# Altium schematic symbol library PA_control_board.SchLib: 74 symbols
Pins are listed as number, name and electrical type; pins without a type are passive.

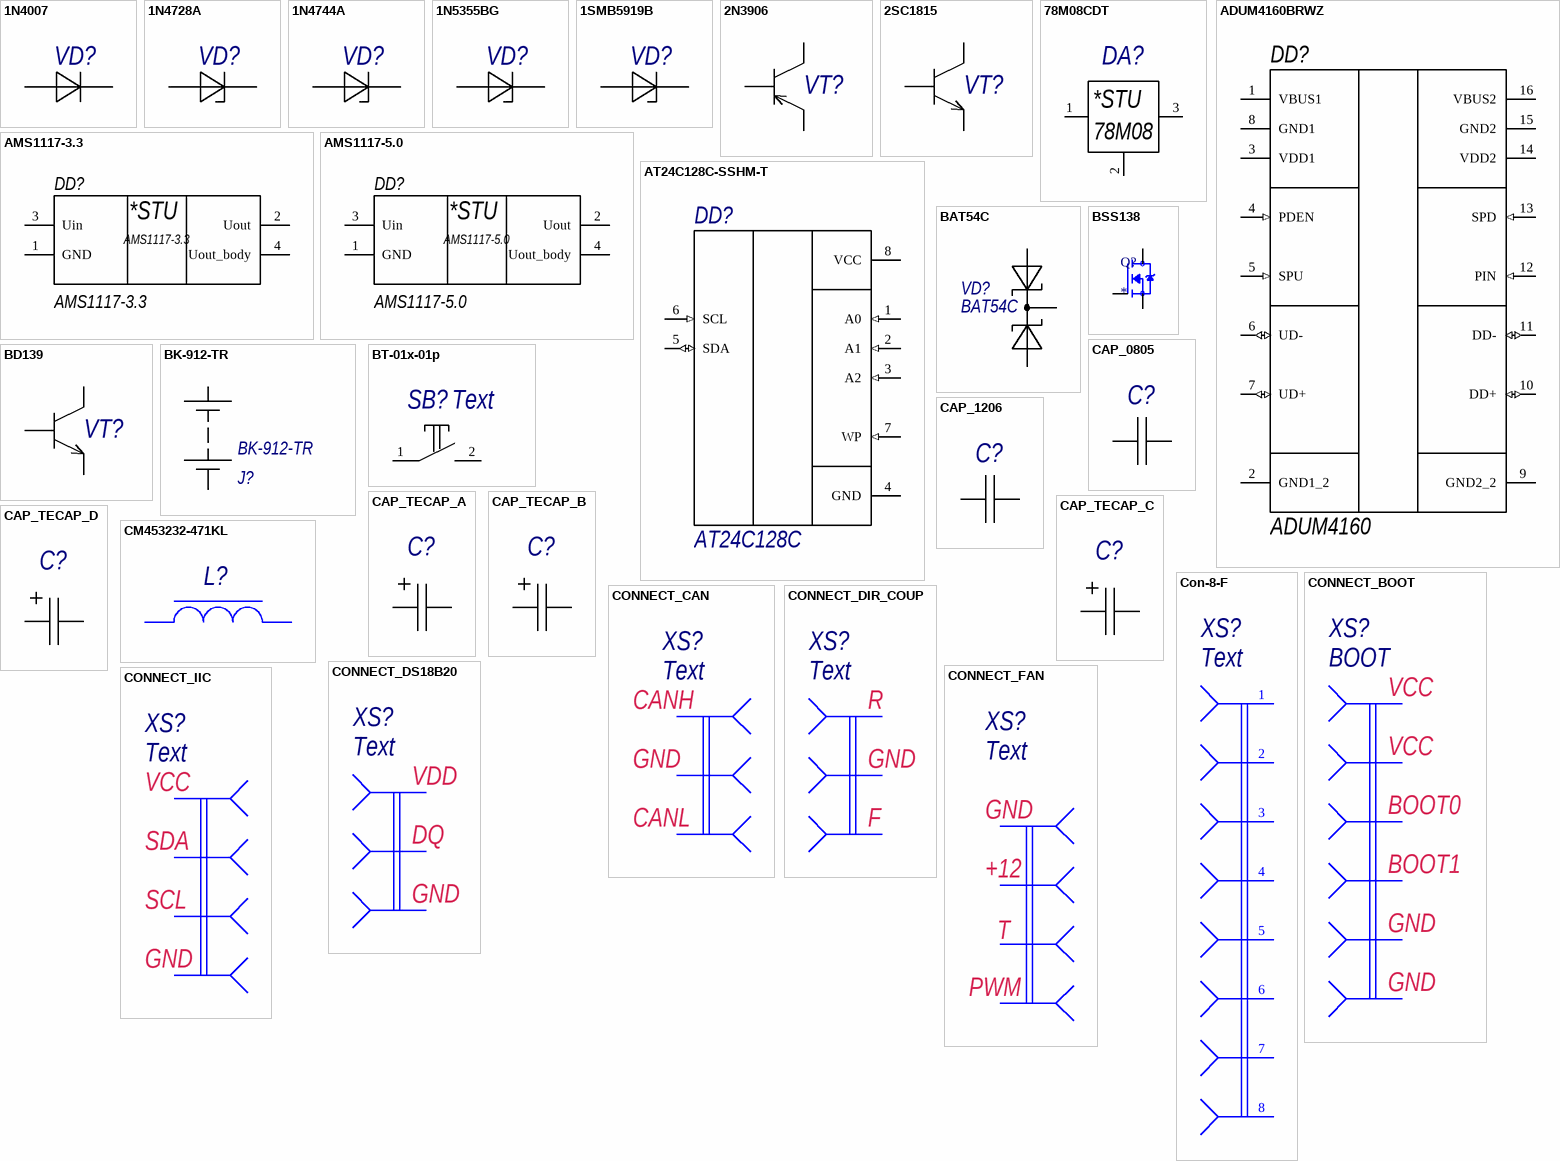
[diagram p0: symbols 1N4007 to CONNECT_IIC]

## 1N4007
designator VD?
Type: Диод; Published: 18.05.2010; Publisher: Andrew Danich
footprint DO-41 (Diode, Axial; Body 5.2 x 2.7 mm (LxDia. max), Lead Dia. 0.86 mm (max))
pins: 1 "Катод", 2 "Анод"

## 1N4728A
designator VD?
Type: Стабилитрон; Published: 20.05.2013; Publisher: Andrew Danich
footprint DO-41 (Diode, Axial; Body 5.2 x 2.7 mm (LxDia. max), Lead Dia. 0.86 mm (max))
pins: 1 А "Анод", 2 К "Катод"

## 1N4744A
designator VD?
Type: Стабилитрон; Published: 20.05.2013; Publisher: Andrew Danich
footprint DO-41 (Diode, Axial; Body 5.2 x 2.7 mm (LxDia. max), Lead Dia. 0.86 mm (max))
pins: 1 А "Анод", 2 К "Катод"

## 1N5355BG
designator VD?
Type: Стабилитрон; Published: 20.05.2013; Publisher: Andrew Danich
footprint DO-41 (Diode, Axial; Body 5.2 x 2.7 mm (LxDia. max), Lead Dia. 0.86 mm (max))
pins: 1 А "Анод", 2 К "Катод"

## 1SMB5919B
designator VD?
Type: Стабилитрон; Published: 20.05.2013; Publisher: Andrew Danich
footprint DO214AA SMB (Molded Diode, 2-Leads, Body 4.31x3.62mm, IPC Medium Density)
pins: 1 А "Анод", 2 К "Катод"

## 2N3906
designator VT?
Type: Транзистор; Published: 07.05.2013; Publisher: Andrew Danich
footprint TO-92-A
pins: 1 Б "База", 2 К "Коллектор", 3 Э "Эмиттер"

## 2SC1815
designator VT?
Type: Транзистор; Published: 07.05.2013; Publisher: Andrew Danich
footprint TO-92-A
pins: 1 Б "База", 2 К "Коллектор", 3 Э "Эмиттер"

## 78M08CDT
designator DA?
Published: 13.08.2015; Publisher: Andrew Danich; Type: Микросхема
footprint SC_TO-252AA (D-PAK)
pins: 1 In, 2 GND, 3 Out
text: *STU; 78M08

## ADUM4160BRWZ
designator DD?, comment ADUM4160
USB Digital Isolator 5000Vrms 2 Channel 12Mbps 25kV/Âµs CMTI 16-SOIC _0.295, 7.50mm Width_; MP: ADUM4160BRWZ; MF: Analog Devices; Price: None; Value: *; Package: SOIC WIDE-16 Analog Devices; SnapEDA_Link: https://www.snapeda.com/parts/ADUM4160BRWZ/Analog%20Devices%20Inc./view-part/132664/?ref=snap; Availability: Unavailable
footprint SOIC127P1032X265-16N
pins: 1 VBUS1 (power), 2 GND1_2, 3 VDD1 (power), 4 PDEN (in), 5 SPU (in), 6 UD- (io), 7 UD+ (io), 8 GND1, 9 GND2_2, 10 DD+ (io), 11 DD- (io), 12 PIN (in), 13 SPD (in), 14 VDD2 (power), 15 GND2, 16 VBUS2 (power)

## AMS1117-3.3
designator DD?
Sot223/Pkg 1-Amp 3.3-Volt Low Drop Out Voltage Regulatator; MF: Advanced Monolithic Systems; Price: None; Package: None; Value: *; MP: AMS1117-3.3; Availability: Unavailable; SnapEDA_Link: https://www.snapeda.com/parts/AMS1117-3.3/Advanced%20Monolithic%20Systems/view-part/53450/?ref=snap
footprint SOT229P700X180-4N
pins: 1 GND "Вход включения", 2 Uout (power) "Выход", 3 Uin (power), 4 Uout_body (power) "Общ"
text: *STU

## AMS1117-5.0
designator DD?
Sot223/Pkg 1-Amp 3.3-Volt Low Drop Out Voltage Regulatator; MP: AMS1117-3.3; MF: Advanced Monolithic Systems; Price: None; Package: None; Value: *; Availability: Unavailable; SnapEDA_Link: https://www.snapeda.com/parts/AMS1117-3.3/Advanced%20Monolithic%20Systems/view-part/53450/?ref=snap
footprint SOT229P700X180-4N
pins: 1 GND "Вход включения", 2 Uout (power) "Выход", 3 Uin (power), 4 Uout_body (power) "Общ"
text: *STU

## AT24C128C-SSHM-T
designator DD?, comment AT24C128C
EEPROM Memory IC 128Kb _16K x 8_ IÂ²C 1MHz 550ns 8-SOIC; MP: AT24C128C-SSHM-T; MF: Microchip; SnapEDA_Link: https://www.snapeda.com/parts/AT24C128C-SSHM-T/Microchip/view-part/1771999/?ref=snap; Value: *; Package: SO-8 Microchip; Price: None; Availability: Unavailable
footprint SOIC127P600X175-8N
pins: 1 A0 (in), 2 A1 (in), 3 A2 (in), 4 GND, 5 SDA (io), 6 SCL (in), 7 WP (in), 8 VCC (power)

## BAT54C
designator VD?
Small Signal Schottky Diode, Dual Common Cathode, 30 V, 200 mA, 400 mV, 600 mA, 125 C
footprint BAT54C_SOT23-3
pins: 1 А1 "Анод", 2 C "Катод", 3 AC "Анод\Катод"

## BD139
designator VT?
Type: Транзистор; Published: 07.05.2013; Publisher: Andrew Danich
footprint TO-126 (КТ-27)
pins: 1 Б "База", 2 К "Коллектор", 3 Э "Эмиттер"

## BK-912-TR
designator J?
Holder Coin Cell 20mm Smd
footprint BK-912-TR (CR2032battery holder)
pins: 1 +, 2 -

## BSS138
designator Q?
N-Channel 50V 220mA (Ta) 360mW (Ta) Surface Mount SOT-23-3; MP: BSS138; Price: None; Value: *; Availability: Unavailable; Package: None
footprint SOT95P240X111-3N
pins: 1 G, 2 S, 3 D

## BT-01x-01p
designator SB?, comment Text
Published: 17.04.2014; Publisher: Andrew Danich; Type: Переключатель
footprint 1437566-3
pins: 1, 2

## CAP_0805
designator C?
Type: Конденсатор; Published: 18.05.2010; Publisher: Andrew Danich
footprint C0805C
pins: 1, 2

## CAP_1206
designator C?
Type: Конденсатор; Published: 18.05.2010; Publisher: Andrew Danich
footprint C0805C
footprint C1210C (Chip Capacitor, 2-Leads, Body 3,2x2,5mm, IPC Medium Density)
pins: 1, 2

## CAP_TECAP_A
designator C?
Type: Конденсатор; Published: 20.08.2010; Publisher: Andrew Danich
footprint TECAP_A
pins: 1, 2

## CAP_TECAP_B
designator C?
Type: Конденсатор; Published: 20.08.2010; Publisher: Andrew Danich
pins: 1, 2

## CAP_TECAP_C
designator C?
Type: Конденсатор; Published: 20.08.2010; Publisher: Andrew Danich
pins: 1, 2

## CAP_TECAP_D
designator C?
Type: Конденсатор; Published: 20.08.2010; Publisher: Andrew Danich
footprint TECAP_D
pins: 1, 2

## CM453232-471KL
designator L?
Type: Дроссель; Published: 20.05.2010; Publisher: Andrew Danich
footprint INDPM4532
pins: 1, 2

## Con-8-F
designator XS?, comment Text
Value: Connector; Published: 07.03.2013; Publisher: Andrew Danich; Type: Розетка
footprint WF-8
pins: 1, 2, 3, 4, 5, 6, 7, 8

## CONNECT_BOOT
designator XS?, comment BOOT
Value: Connector; Published: 07.03.2013; Publisher: Andrew Danich; Type: Розетка
footprint PLD2-3
pins: 1, 2, 3, 4, 5, 6
text: VCC; BOOT0; BOOT1; GND

## CONNECT_CAN
designator XS?, comment Text
Published: 07.03.2013; Publisher: Andrew Danich; Type: Розетка
footprint YX-XH-3
pins: 1, 2, 3
text: CANH; GND; CANL

## CONNECT_DIR_COUP
designator XS?, comment Text
Published: 07.03.2013; Publisher: Andrew Danich; Type: Розетка
footprint YX-XH-3
pins: 1, 2, 3
text: R; GND; F

## CONNECT_DS18B20
designator XS?, comment Text
Published: 07.03.2013; Publisher: Andrew Danich; Type: Розетка
footprint YX-XH-3
pins: 1, 2, 3
text: VDD; DQ; GND

## CONNECT_FAN
designator XS?, comment Text
Value: Connector; Published: 07.03.2013; Publisher: Andrew Danich; Type: Розетка
footprint WF-4
pins: 1, 2, 3, 4
text: GND; +12; T; PWM

## CONNECT_IIC
designator XS?, comment Text
Value: Connector; Published: 07.03.2013; Publisher: Andrew Danich; Type: Розетка
footprint WF-4
pins: 1, 2, 3, 4
text: VCC; SDA; SCL; GND

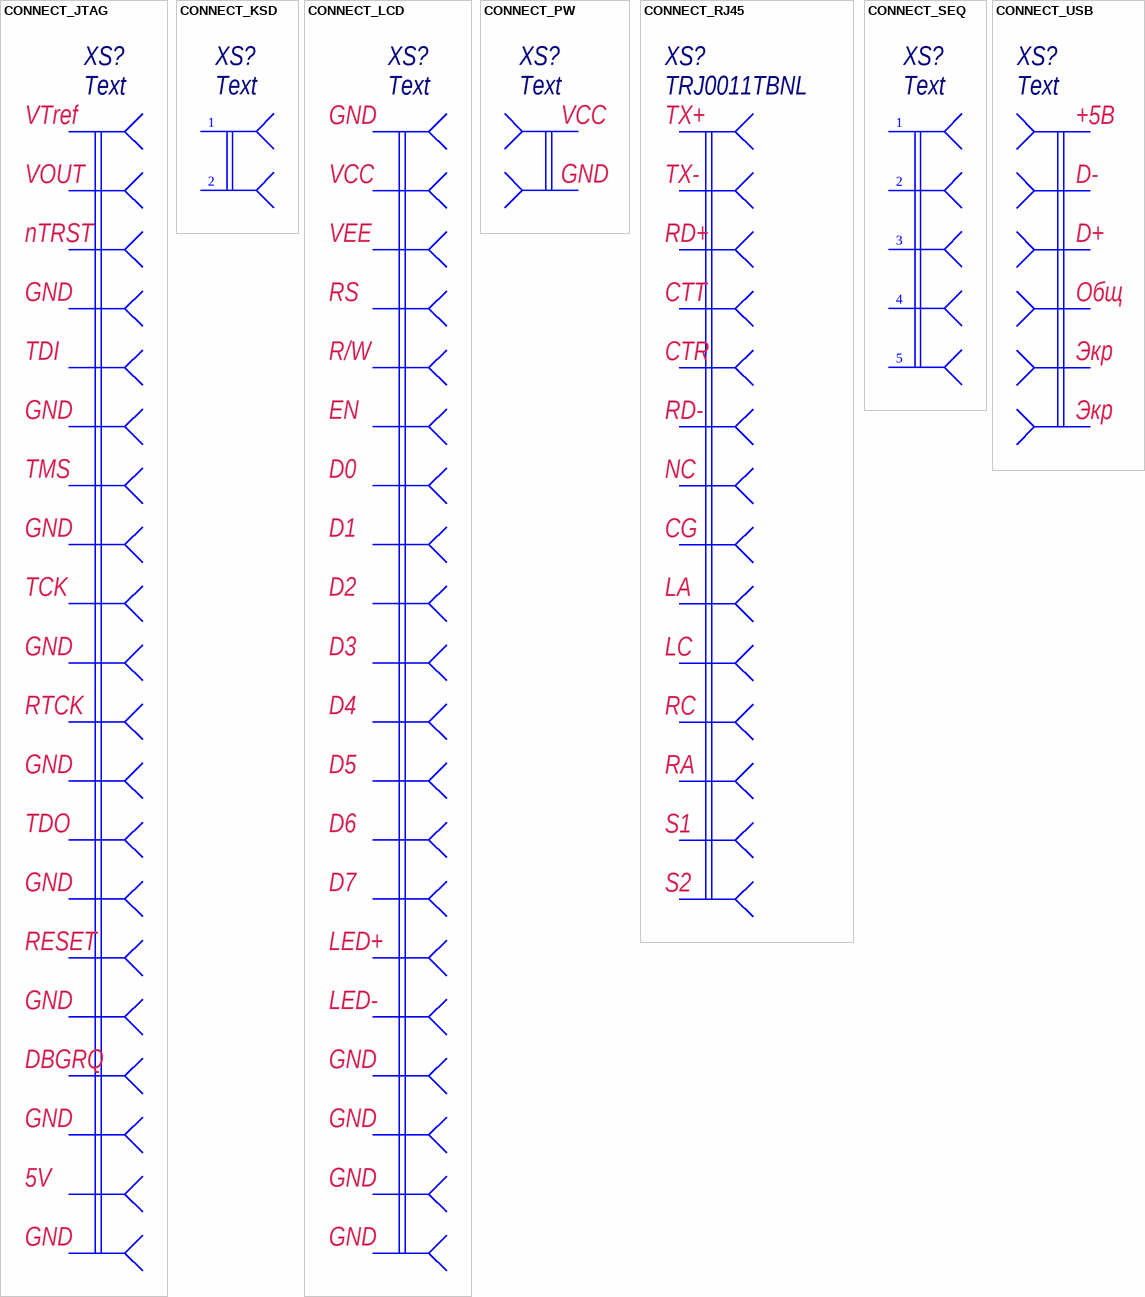
[diagram p1: symbols CONNECT_JTAG to CONNECT_USB]

## CONNECT_JTAG
designator XS?, comment Text
Value: Connector; Published: 07.03.2013; Publisher: Andrew Danich; Type: Розетка
footprint IDC-20
pins: 1, 2, 3, 4, 5, 6, 7, 8, 9, 10, 11, 12, 13, 14, 15, 16, 17, 18, 19, 20
text: VTref; VOUT; nTRST; GND; TDI; TMS; TCK; RTCK; TDO; RESET; DBGRQ; 5V

## CONNECT_KSD
designator XS?, comment Text
Value: Connector; Published: 07.03.2013; Publisher: Andrew Danich; Type: Розетка
footprint WF-2
pins: 1, 2

## CONNECT_LCD
designator XS?, comment Text
Value: Connector; Published: 07.03.2013; Publisher: Andrew Danich; Type: Розетка
footprint IDC-20
pins: 1, 2, 3, 4, 5, 6, 7, 8, 9, 10, 11, 12, 13, 14, 15, 16, 17, 18, 19, 20
text: GND; VCC; VEE; RS; R/W; EN; D0; D1; D2; D3; D4; D5; D6; D7; LED+; LED-

## CONNECT_PW
designator XS?, comment Text
Value: Connector; Published: 07.03.2013; Publisher: Andrew Danich; Type: Розетка
footprint DG25C-B-02P-13
pins: 1, 2
text: VCC; GND

## CONNECT_RJ45
designator XS?, comment TRJ0011TBNL
Value: Connector; Published: 07.03.2013; Publisher: Andrew Danich; Type: Розетка
footprint J0011D018
pins: 1, 2, 3, 4, 5, 6, 7, 8, 9, 10, 11, 12, S1, S2
text: TX+; TX-; RD+; CTT; CTR; RD-; NC; CG; LA; LC; RC; RA

## CONNECT_SEQ
designator XS?, comment Text
Value: Connector; Published: 07.03.2013; Publisher: Andrew Danich; Type: Розетка
footprint WF-5
pins: 1, 2, 3, 4, 5

## CONNECT_USB
designator XS?, comment Text
Published: 11.04.2016; Publisher: Andrew Danich; Type: Розетка
footprint SAMTEC_USB-B-S-X-X-TH
pins: 1, 2, 3, 4, S1, S2
text: +5В; D-; D+; Общ; Экр

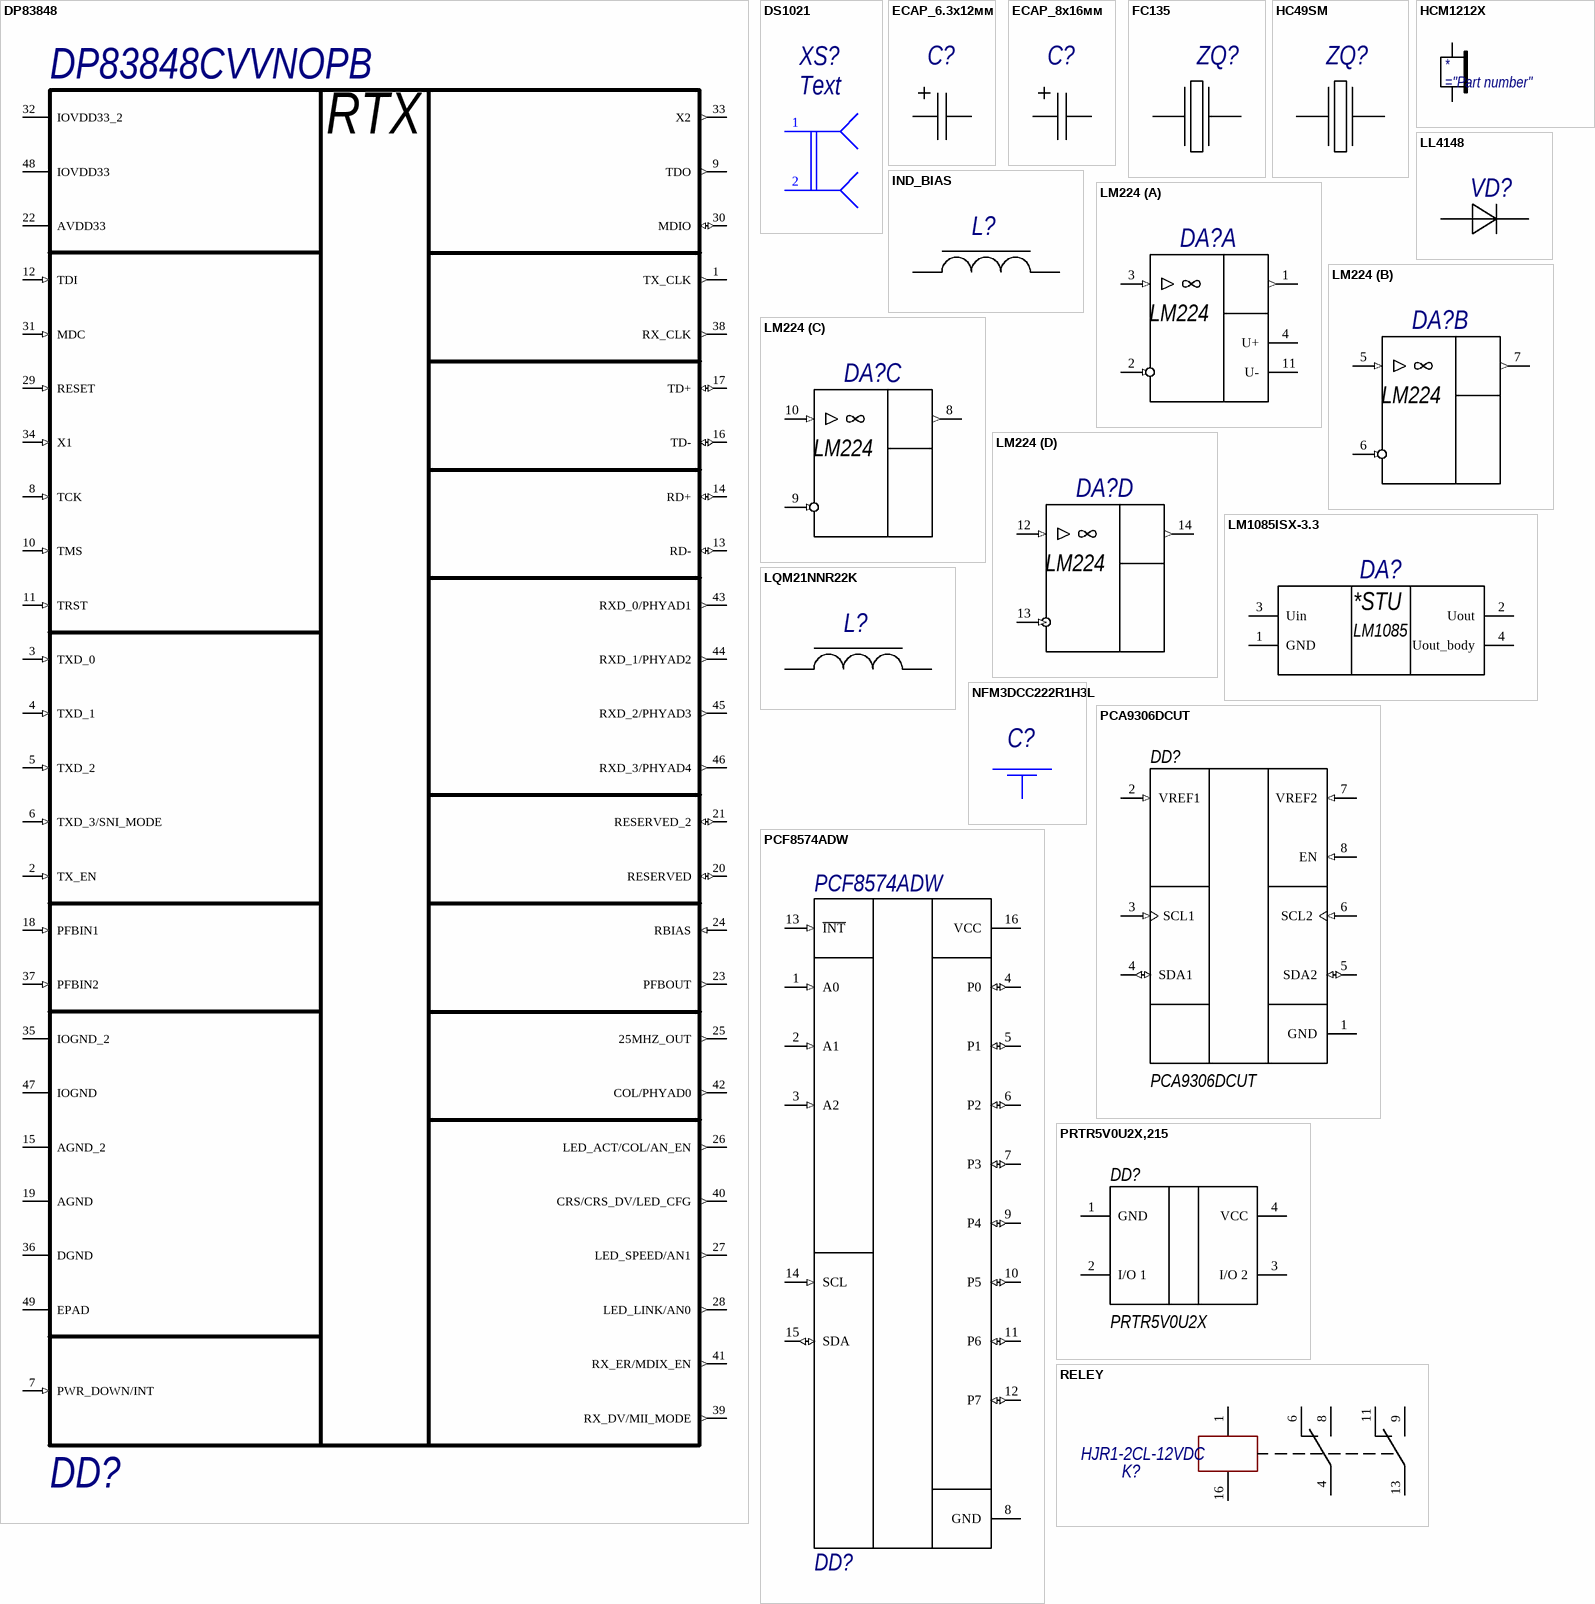
[diagram p2: symbols DP83848 to RELEY]

## DP83848
designator DD?, comment DP83848CVVNOPB
ETH Transciever
footprint QFP48
pins: 1 TX_CLK (out), 2 TX_EN (in), 3 TXD_0 (in), 4 TXD_1 (in), 5 TXD_2 (in), 6 TXD_3/SNI_MODE (in), 7 PWR_DOWN/INT (in), 8 TCK (in), 9 TDO (out), 10 TMS (in), 11 TRST (in), 12 TDI (in), 13 RD- (io), 14 RD+ (io), 15 AGND_2, 16 TD- (io), 17 TD+ (io), 18 PFBIN1 (in), 19 AGND, 20 RESERVED (io), 21 RESERVED_2 (io), 22 AVDD33 (power), 23 PFBOUT (out), 24 RBIAS (in), 25 25MHZ_OUT (out), 26 LED_ACT/COL/AN_EN (out), 27 LED_SPEED/AN1 (out), 28 LED_LINK/AN0 (out), 29 RESET (in), 30 MDIO (io), 31 MDC (in), 32 IOVDD33_2 (power), 33 X2 (out), 34 X1 (in), 35 IOGND_2, 36 DGND, 37 PFBIN2 (in), 38 RX_CLK (out), 39 RX_DV/MII_MODE (out), 40 CRS/CRS_DV/LED_CFG (out), 41 RX_ER/MDIX_EN (out), 42 COL/PHYAD0 (out), 43 RXD_0/PHYAD1 (out), 44 RXD_1/PHYAD2 (out), 45 RXD_2/PHYAD3 (out), 46 RXD_3/PHYAD4 (out), 47 IOGND, 48 IOVDD33 (power), 49 EPAD
text: RTX

## DS1021
designator XS?, comment Text
Value: Connector; Published: 07.03.2013; Publisher: Andrew Danich; Type: Розетка
footprint PLD2
pins: 1, 2

## ECAP_6.3x12мм
designator C?
Type: Конденсатор; Published: 20.08.2010; Publisher: Andrew Danich
footprint ECAP_6.3x12
pins: 1, 2

## ECAP_8x16мм
designator C?
Type: Конденсатор; Published: 20.08.2010; Publisher: Andrew Danich
footprint ECAP_8x16мм
pins: 1, 2

## FC135
designator ZQ?
Published: 08.03.2013; Publisher: Andrew Danich; Type: Резонатор
footprint FC-135
pins: 1, 2

## HC49SM
designator ZQ?
Published: 08.03.2013; Publisher: Andrew Danich; Type: Резонатор
footprint HC49SM
pins: 1, 2

## HCM1212X
designator *
footprint HCM1206X
pins: 1, 2

## IND_BIAS
designator L?
Type: Дроссель; Published: 20.05.2010; Publisher: Andrew Danich
footprint AXIAL-0.6 (Axial Device, Thru-Hole; 2 Leads; 0.6 in Pin Spacing)
pins: 1, 2

## LL4148
designator VD?
Type: Диод; Published: 18.05.2010; Publisher: Andrew Danich
footprint DIO_LL4148
pins: 1 А "Анод", 2 К "Катод"

## LM224
designator DA?
Published: 29.07.2015; Publisher: Andrew Danich; Type: Микросхема
footprint Texas_Instruments_D0014A_IPC_A
part A pins: 1 OUT (out) "Выход", 2 IN- (in) "Вход инверсный", 3 IN+ (in) "Вход неинверсный", 4 U+ (power) "Вывод питания от источника положительного напряжения", 11 U- (power) "Вывод питания от источника отрицательного напряжения"
part B pins: 5 IN+ (in) "Вход неинверсный", 6 IN- (in) "Вход инверсный", 7 OUT (out) "Выход"
part C pins: 8 OUT (out) "Выход", 9 IN- (in) "Вход инверсный", 10 IN+ (in) "Вход неинверсный"
part D pins: 12 IN+ (in) "Вход неинверсный", 13 IN- (in) "Вход инверсный", 14 OUT (out) "Выход"
1 alternate drawing of the same symbol

## LM1085ISX-3.3
designator DA?
Published: 31.07.2015; Publisher: Andrew Danich; Type: Микросхема
footprint LM1085ISX-3.3
pins: 1 GND "Вход включения", 2 Uout (power) "Выход", 3 Uin (power), 4 Uout_body (power) "Общ"
text: *STU; LM1085

## LQM21NNR22K
designator L?
Type: Дроссель; Published: 20.05.2010; Publisher: Andrew Danich
footprint L0805
pins: 1, 2

## NFM3DCC222R1H3L
designator C?
Type: Конденсатор; Published: 06.07.2014; Publisher: Andrew Danich
footprint NFM3DCC222R1H3L
pins: 1, 2, 3

## PCA9306DCUT
designator DD?
2-bit bidirectional I2C bus and SMBus voltage-level shifter 8-VSSOP -40 to 85; MF: Texas Instruments; SnapEDA_Link: https://www.snapeda.com/parts/PCA9306DCUT/Texas%20Instruments/view-part/39070/?ref=snap; DigiKey-Purchase-URL: https://snapeda.com/shop?store=DigiKey&id=39070; MP: PCA9306DCUT; Arrow_Electronics-Purchase-URL: https://snapeda.com/shop?store=Arrow+Electronics&id=39070; Availability: Good; Package: VSSOP-8 Texas Instruments; Mouser-Purchase-URL: https://snapeda.com/shop?store=Mouser&id=39070; Price: None; Value: *; Texas_Instruments-Purchase-URL: https://snapeda.com/shop?store=Texas+Instruments&id=39070
footprint SOP50P310X90-8N
pins: 1 GND (power), 2 VREF1 (in), 3 SCL1 (in), 4 SDA1 (io), 5 SDA2 (io), 6 SCL2 (in), 7 VREF2 (in), 8 EN (in)

## PCF8574ADW
designator DD?
Remote 8-Bit I/O Expander for I2C-Bus 16-SOIC -40 to 85; MF: Texas Instruments; Mouser-Purchase-URL: https://snapeda.com/shop?store=Mouser&id=554599; SnapEDA_Link: https://www.snapeda.com/parts/PCF8574ADW/Texas%20Instruments/view-part/554599/?ref=snap; DigiKey-Purchase-URL: https://snapeda.com/shop?store=DigiKey&id=554599; Package: SOIC-16 Texas Instruments; MP: PCF8574ADW; Price: None; Availability: Warning; Texas_Instruments-Purchase-URL: https://snapeda.com/shop?store=Texas+Instruments&id=554599; Value: *
footprint SOIC127P1030X265-16N
pins: 1 A0 (in), 2 A1 (in), 3 A2 (in), 4 P0 (io), 5 P1 (io), 6 P2 (io), 7 P3 (io), 8 GND (power), 9 P4 (io), 10 P5 (io), 11 P6 (io), 12 P7 (io), 13 ~{INT} (in), 14 SCL (in), 15 SDA (io), 16 VCC (power)

## PRTR5V0U2X,215
designator DD?, comment PRTR5V0U2X
Ultra low capacitance double rail-to-rail ESD protection diode; MP: PRTR5V0U2X,215; Package: None; Price: None; Availability: Unavailable; Value: *
footprint SOT143B
pins: 1 GND, 2 I/O 1, 3 I/O 2, 4 VCC

## RELEY
designator K?, comment HJR1-2CL-12VDC
footprint HJR1-2C L-12VDC
pins: 1, 4, 6, 8, 9, 11, 13, 16
1 alternate drawing of the same symbol

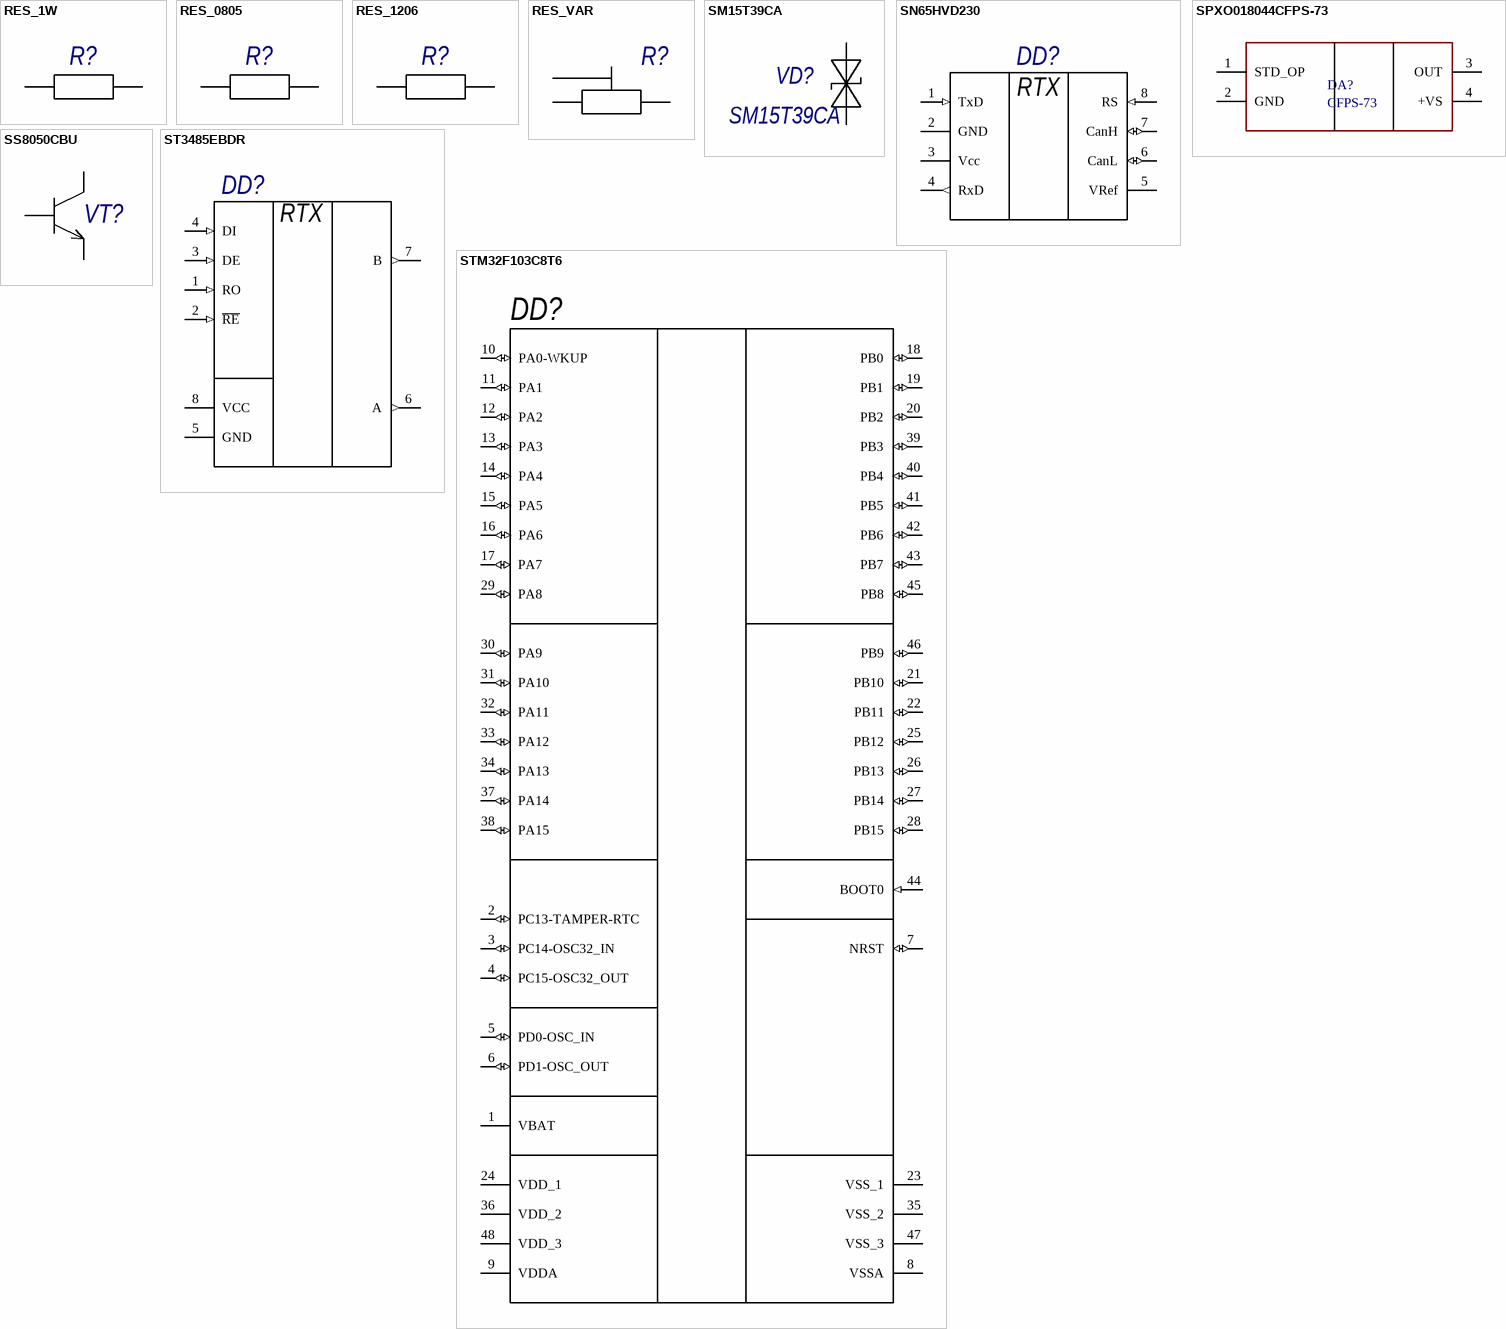
[diagram p3: symbols RES_1W to STM32F103C8T6]

## RES_1W
designator R?
Published: 24.03.2010; Publisher: Andrew Danich; Type: Резистор
footprint AXIAL-0.6 (Axial Device, Thru-Hole; 2 Leads; 0.6 in Pin Spacing)
pins: 1, 2

## RES_0805
designator R?
Published: 24.03.2010; Publisher: Andrew Danich; Type: Резистор
footprint C0805R
pins: 1, 2

## RES_1206
designator R?
Published: 24.03.2010; Publisher: Andrew Danich; Type: Резистор
footprint C1210R
pins: 1, 2

## RES_VAR
designator R?
Publisher: Andrew Danich; Type: Подстроечный резистор; Published: 27.07.2015
footprint TRIM_3296W-1-254LF
pins: 1, 2, 3

## SM15T39CA
designator VD?
footprint DO214AB SMC
pins: 1 А1 "Анод", 2 C "Катод"

## SN65HVD230
designator DD?
Высокоскоростной CAN-Трансивер, 1Мб/с, 12В/24В, до 112 узлов; Published: 26.02.2013; Publisher: Andrew Danich; Type: Микросхема
footprint SOIC8 (SO-8)
pins: 1 TxD (in), 2 GND (power), 3 Vcc (power), 4 RxD (out), 5 VRef (power), 6 CanL (io), 7 CanH (io), 8 RS (in)
text: RTX

## SPXO018044CFPS-73
designator DA?, comment CFPS-73
IQD FREQUENCY PRODUCTS - SPXO018044-CFPS-73 - OSCILLATOR FREQUENCY, 50MHZ
footprint CFPS-73
pins: 1 STD_OP, 2 GND, 3 OUT, 4 +VS

## SS8050CBU
designator VT?
Type: Транзистор; Published: 07.05.2013; Publisher: Andrew Danich
footprint TO-92-A
pins: 1 Б "База", 2 К "Коллектор", 3 Э "Эмиттер"

## ST3485EBDR
designator DD?
Published: 26.02.2013; Publisher: Andrew Danich; Type: Микросхема
footprint SOIC8 (SO-8)
pins: 1 RO (in), 2 ~{RE} (in), 3 DE (in), 4 DI (in), 5 GND, 6 A (out), 7 B (out), 8 VCC (power)
text: RTX

## STM32F103C8T6
designator DD?
ARM Cortex-M3 32-bit MCU, 64 KB Flash, 20 KB Internal RAM, 37 I/Os, 48-pin LQFP, -40 to 85 degC, Tray; PartNumber: STM32F103C8T6; A/D Converter: 2x12-bit (10 Channel); FLASH Size (Prog) (kB): 64; I/Os (High Current): 37; Internal RAM Size (kB): 20; Operating Frequency(F) (Processor speed) (MHz): 72; Supply Voltage(Vcc) min (V): 2; DatasheetVersion: Rev. 16; PackageVersion: Rev. 6, 06/2013; PackageReference: LQFP48; PackageDescription: 48-Pin Low Profile Quad Flat Package, 7 x 7 mm Body, 0.5 mm Pitch; Supplier 1: Digi-Key; Supplier Part Number 1: 497-6063-ND; Supplier 2: Farnell; Supplier Part Number 2: 1447637; Supplier 3: Newark; Supplier Part Number 3: 59M2182; Supplier 4: Newark; Supplier Part Number 4: 57P1222; Supplier 5: Mouser; Supplier Part Number 5: 511-STM32F103C8T6; Core: ARM Cortex-M3; Packing: Tray; Mounting Technology: Surface Mount; ComponentLink1Description: Manufacturer URL; ComponentLink1URL: http://www.st.com/web/en/home.html; ComponentLink2Description: Datasheet; ComponentLink2URL: http://www.st.com/st-web-ui/static/active/en/resource/technical/document/datasheet/CD00161566.pdf; ComponentLink3Description: Package Specification; ComponentLink3URL: http://www.st.com/st-web-ui/static/active/en/resource/technical/document/datasheet/DM00058181.pdf
footprint STM-LQFP48_L (QFP, 48-Leads, Body 7x7mm, Pitch 0.5mm, IPC High Density)
pins: 1 VBAT (power), 2 PC13-TAMPER-RTC (io) "PC13-TAMPER-RTC/PC13/TAMPER-RTC", 3 PC14-OSC32_IN (io) "PC14-OSC32_IN/PC14/OSC32_IN", 4 PC15-OSC32_OUT (io) "PC15-OSC32_OUT/PC15/OSC32_OUT", 5 PD0-OSC_IN (io) "PD0/OSC_IN", 6 PD1-OSC_OUT (io) "PD1/OSC_OUT", 7 NRST (io), 8 VSSA (power), 9 VDDA (power), 10 PA0-WKUP (io) "PA0-WKUP/PA0/WKUP/USART2_CTS/ADC12_IN0/TIM2_CH1_ETR", 11 PA1 (io) "PA1/USART2_RTS/ADC12_IN1/TIM2_CH2", 12 PA2 (io) "PA2/USART2_TX/ADC12_IN2/TIM2_CH3", 13 PA3 (io) "PA3/USART2_RX/ADC12_IN3/TIM2_CH4", 14 PA4 (io) "PA4/SPI1_NSS/USART2_CK/ADC12_IN4", 15 PA5 (io) "PA5/SPI1_SCK/ADC12_IN5", 16 PA6 (io) "PA6/SPI1_MISO/ADC12_IN6/TIM3_CH1/TIM1_BKIN", 17 PA7 (io) "PA7/SPI1_MOSI/ADC12_IN7/TIM3_CH2/TIM1_CH1N", 18 PB0 (io) "PB0/ADC12_IN8/TIM3_CH3/TIM1_CH2N", 19 PB1 (io) "PB1/ADC12_IN9/TIM3_CH4/TIM1_CH3N", 20 PB2 (io) "PB2/BOOT1", 21 PB10 (io) "PB10/I2C2_SCL/USART3_TX/TIM2_CH3", 22 PB11 (io) "PB11/I2C2_SDA/USART3_RX/TIM2_CH4", 23 VSS_1 (power), 24 VDD_1 (power), 25 PB12 (io) "PB12/SPI2_NSS/I2C2_SMBAl/USART3_CK/TIM1_BKIN", 26 PB13 (io) "PB13/SPI2_SCK/USART3_CTS/TIM1_CH1N", 27 PB14 (io) "PB14/SPI2_MISO/USART3_RTS/TIM1_CH2N", 28 PB15 (io) "PB15/SPI2_MOSI/TIM1_CH3N", 29 PA8 (io) "PA8/USART1_CK/TIM1_CH1/MCO", 30 PA9 (io) "PA9/USART1_TX/TIM1_CH2", 31 PA10 (io) "PA10/USART1_RX/TIM1_CH3", 32 PA11 (io) "PA11/USART1_CTS/CANRX/USBDM/TIM1_CH4", 33 PA12 (io) "PA12/USART1_RTS/CANTX/USBDP/TIM1_ETR", 34 PA13 (io) "PA13/JTMS/SWDIO", 35 VSS_2 (power), 36 VDD_2 (power), 37 PA14 (io) "PA14/JTCK/SWCLK", 38 PA15 (io) "PA15/JTDI/TIM2_CH1_ETR/SPI1_NSS", 39 PB3 (io) "PB3/JTDO/TIM2_CH2/TRACESWO/SPI1_SCK", 40 PB4 (io) "PB4/NJTRST/TIM3_CH1/SPI1_MISO", 41 PB5 (io) "PB5/I2C1_SMBAI/TIM3_CH2/SPI1_MOSI", 42 PB6 (io) "PB6/I2C1_SCL/TIM4_CH1/USART1_TX", 43 PB7 (io) "PB7/I2C1_SDA/TIM4_CH2/USART1_RX", 44 BOOT0 (in), 45 PB8 (io) "PB8/TIM4_CH3/I2C1_SCL/CANRX", 46 PB9 (io) "PB9/TIM4_CH4/I2C1_SDA/CANTX", 47 VSS_3 (power), 48 VDD_3 (power)

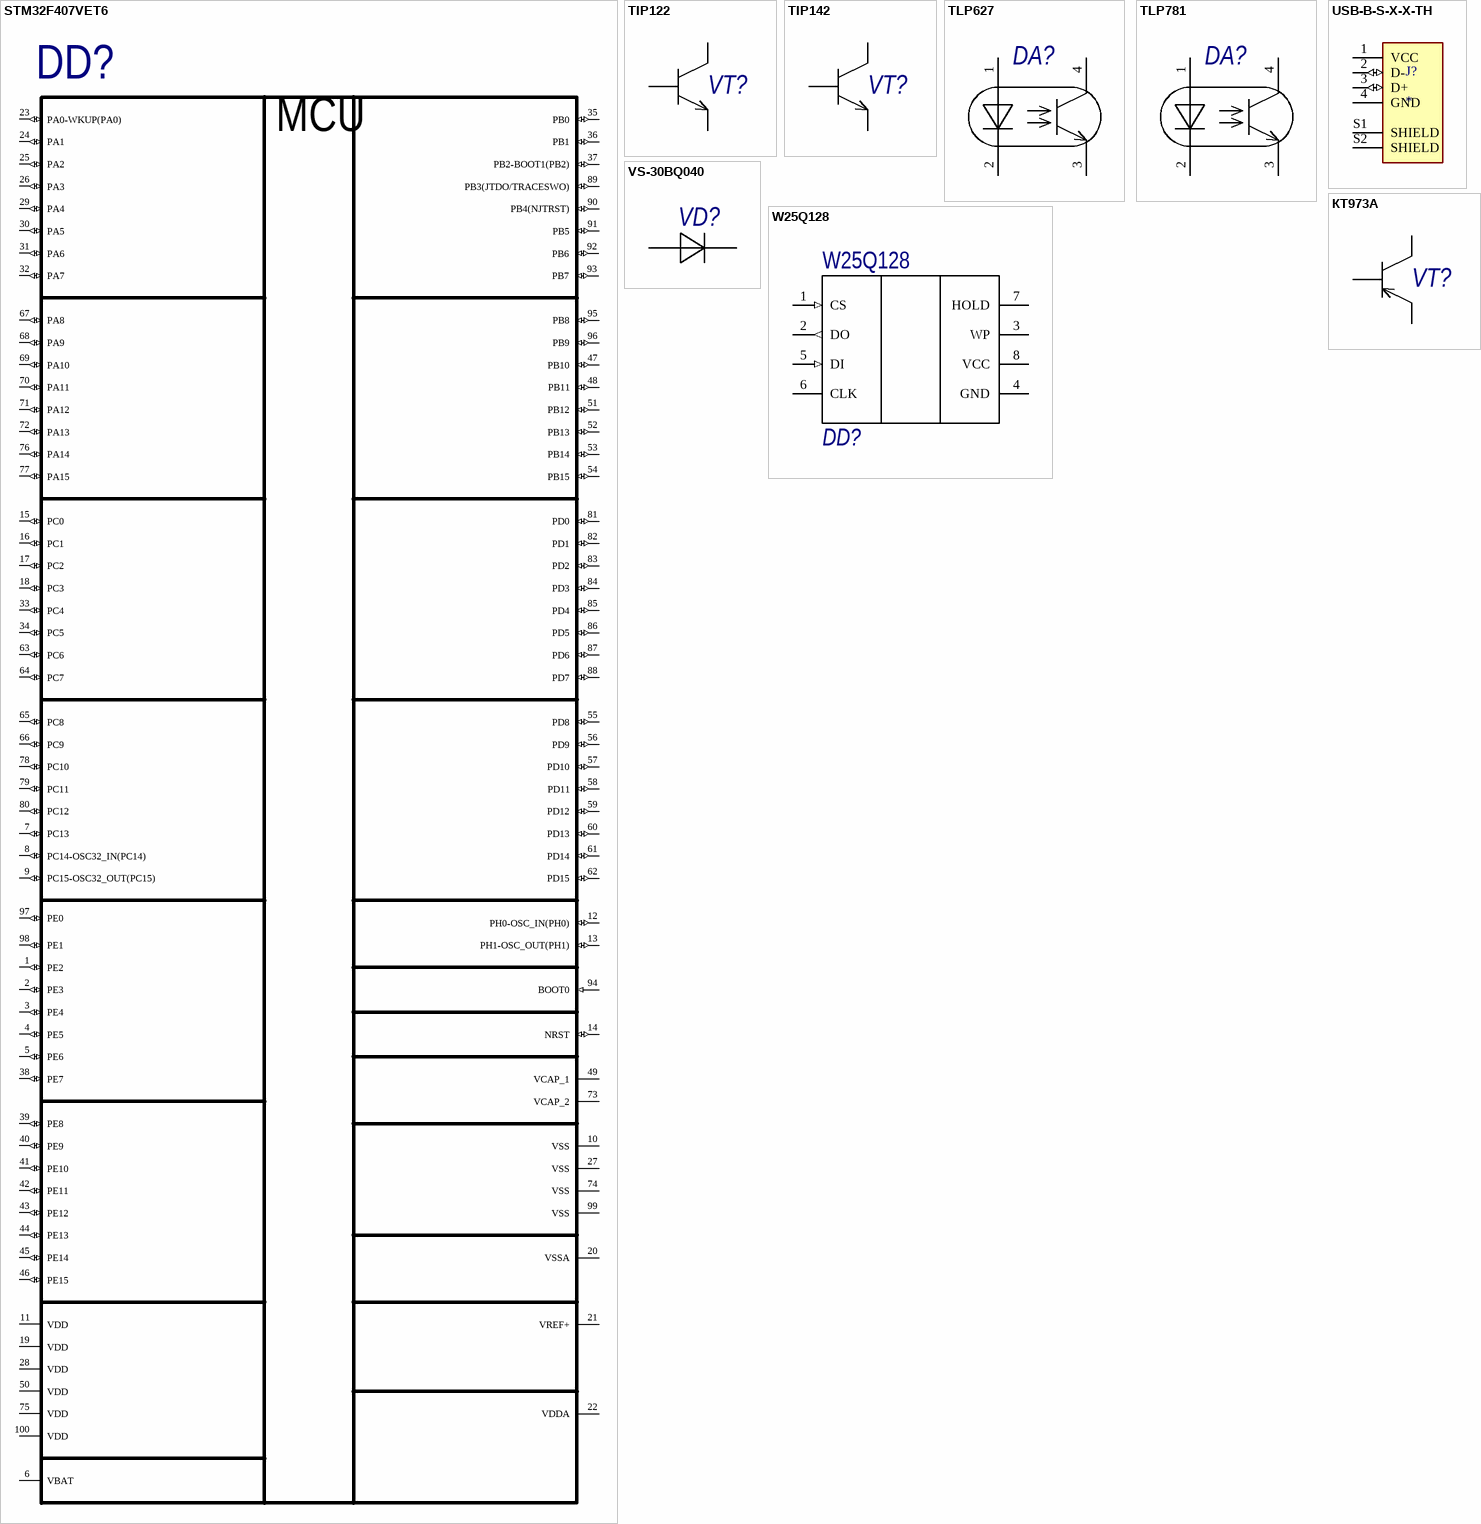
[diagram p4: symbols STM32F407VET6 to КТ973А]

## STM32F407VET6
designator DD?
ARM Cortex-M4 32-bit MCU+FPU, 210 DMIPS, 512 kB Flash, 192 kB Internal RAM, 82 I/Os, 100-pin LQFP, -40 to 85 degC, Tray; Manufacturer: STMicroelectronics; PartNumber: STM32F407VET6; D/A Converter: 2x12-bit; FLASH Size (Prog) (kB): 512; I/Os (High Current): 82; Internal RAM Size (kB): 192; Operating Frequency(F) (Processor speed) (MHz): 168; Supply Voltage(Vcc) max (V): 3.6; Supply Voltage(Vcc) min (V): 1.8; DatasheetVersion: Rev. 4; PackageVersion: Rev. 1, 06/2013; PackageReference: LQFP100; PackageDescription: 100-Pin Low Profile Quad Flat Package, 14 x 14 mm Body, 0.5 mm Pitch; Supplier 1: Digi-Key; Supplier Part Number 1: 497-12075-ND; Supplier 2: Farnell; Supplier Part Number 2: 2064367; Supplier 3: Newark; Supplier Part Number 3: 73T2332; Supplier 4: Mouser; Supplier Part Number 4: 511-STM32F407VET6; Core: ARM Cortex-M4; Packing: Tray; Mounting Technology: Surface Mount; ComponentLink1Description: Manufacturer URL; ComponentLink1URL: http://www.st.com/web/en/home.html; ComponentLink2Description: Datasheet; ComponentLink2URL: http://www.st.com/st-web-ui/static/active/en/resource/technical/document/datasheet/DM00037051.pdf; ComponentLink3Description: Package Specification; ComponentLink3URL: http://www.st.com/st-web-ui/static/active/en/resource/technical/document/data_brief/DM00071938.pdf
footprint STM-LQFP100_N (Thin QFP, 100-Leads, Body 14x14mm, Pitch 0.5mm, IPC Medium Density)
footprint STM-LQFP100_L (Thin QFP, 100-Leads, Body 14x14mm, Pitch 0.5mm, IPC High Density)
footprint STM-LQFP100_M (Thin QFP, 100-Leads, Body 14x14mm, Pitch 0.5mm, IPC Low Density)
footprint STM-LQFP100_V (Thin QFP, 100-Leads, Body 14x14mm, Pitch 0.5mm, ST Recommended)
footprint STM-LQFP100_V (Thin QFP, 100-Leads, Body 14x14mm, Pitch 0.5mm, ST Recommended)
pins: 1 PE2 (io) "PE2/TRACECLK/FSMC_A23/ETH_MII_TXD3/EVENTOUT", 2 PE3 (io) "PE3/TRACED0/FSMC_A19/EVENTOUT", 3 PE4 (io) "PE4/TRACED1/FSMC_A20/DCMI_D4/EVENTOUT", 4 PE5 (io) "PE5/TRACED2/FSMC_A21/TIM9_CH1/DCMI_D6/EVENTOUT", 5 PE6 (io) "PE6/TRACED3/FSMC_A22/TIM9_CH2/DCMI_D7/EVENTOUT", 6 VBAT (power), 7 PC13 (io) "PC13/EVENTOUT/RTC_OUT,RTC_TAMP1,RTC_TS", 8 PC14-OSC32_IN(PC14) (io) "PC14-OSC32_IN(PC14)/EVENTOUT/OSC32_IN", 9 PC15-OSC32_OUT(PC15) (io) "PC15-OSC32_OUT(PC15)/EVENTOUT/OSC32_OUT", 10 VSS (power), 11 VDD (power), 12 PH0-OSC_IN(PH0) (io) "PH0-OSC_IN(PH0)/EVENTOUT/OSC_IN", 13 PH1-OSC_OUT(PH1) (io) "PH1-OSC_OUT(PH1)/EVENTOUT/OSC_OUT", 14 NRST (io), 15 PC0 (io) "PC0/OTG_HS_ULPI_STP/EVENTOUT/ADC123_IN10", 16 PC1 (io) "PC1/ETH_MDC/EVENTOUT/ADC123_IN11", 17 PC2 (io) "PC2/SPI2_MISO/OTG_HS_ULPI_DIR/ETH_MII_TXD2/I2S2ext_SD/EVENTOUT/ADC123_IN12", 18 PC3 (io) "PC3/SPI2_MOSI/I2S2_SD/OTG_HS_ULPI_NXT/ETH_MII_TX_CLK/EVENTOUT/ADC123_IN13", 19 VDD (power), 20 VSSA (power), 21 VREF+ (power), 22 VDDA (power), 23 PA0-WKUP(PA0) (io) "PA0-WKUP(PA0)/USART2_CTS/UART4_TX/ETH_MII_CRS/TIM2_CH1_ETR/TIM5_CH1/TIM8_ETR/EVENTOUT/ADC123_IN0/WKUP", 24 PA1 (io) "PA1/USART2_RTS/UART4_RX/ETH_RMII_REF_CLK/ETH_MII_RX_CLK/TIM5_CH2/TIM2_CH2/EVENTOUT/ADC123_IN1", 25 PA2 (io) "PA2/USART2_TX/TIM5_CH3/TIM9_CH1/TIM2_CH3/ETH_MDIO/EVENTOUT/ADC123_IN2", 26 PA3 (io) "PA3/USART2_RX/TIM5_CH4/TIM9_CH2/TIM2_CH4/OTG_HS_ULPI_D0/ETH_MII_COL/EVENTOUT/ADC123_IN3", 27 VSS (power), 28 VDD (power), 29 PA4 (io) "PA4/SPI1_NSS/SPI3_NSS/USART2_CK/DCMI_HSYNC/OTG_HS_SOF/I2S3_WS/EVENTOUT/ADC12_IN4/DAC_OUT1", 30 PA5 (io) "PA5/SPI1_SCK/OTG_HS_ULPI_CK/TIM2_CH1_ETR/TIM8_CH1N/EVENTOUT/ADC12_IN5/DAC_OUT2", 31 PA6 (io) "PA6/SPI1_MISO/TIM8_BKIN/TIM13_CH1/DCMI_PIXCLK/TIM3_CH1/TIM1_BKIN/EVENTOUT/ADC12_IN6", 32 PA7 (io) "PA7/SPI1_MOSI/TIM8_CH1N/TIM14_CH1/TIM3_CH2/ETH_MII_RX_DV/TIM1_CH1N/ETH_RMII_CRS_DV/EVENTOUT/ADC12_IN7", 33 PC4 (io) "PC4/ETH_RMII_RX_D0/ETH_MII_RX_D0/EVENTOUT/ADC12_IN14", 34 PC5 (io) "PC5/ETH_RMII_RX_D1/ETH_MII_RX_D1/EVENTOUT/ADC12_IN15", 35 PB0 (io) "PB0/TIM3_CH3/TIM8_CH2N/OTG_HS_ULPI_D1/ETH_MII_RXD2/TIM1_CH2N/EVENTOUT/ADC12_IN8", 36 PB1 (io) "PB1/TIM3_CH4/TIM8_CH3N/OTG_HS_ULPI_D2/ETH_MII_RXD3/TIM1_CH3N/EVENTOUT/ADC12_IN9", 37 PB2-BOOT1(PB2) (io) "PB2-BOOT1(PB2)/EVENTOUT", 38 PE7 (io) "PE7/FSMC_D4/TIM1_ETR/EVENTOUT", 39 PE8 (io) "PE8/FSMC_D5/TIM1_CH1N/EVENTOUT", 40 PE9 (io) "PE9/FSMC_D6/TIM1_CH1/EVENTOUT", 41 PE10 (io) "PE10/FSMC_D7/TIM1_CH2N/EVENTOUT", 42 PE11 (io) "PE11/FSMC_D8/TIM1_CH2/EVENTOUT", 43 PE12 (io) "PE12/FSMC_D9/TIM1_CH3N/EVENTOUT", 44 PE13 (io) "PE13/FSMC_D10/TIM1_CH3/EVENTOUT", 45 PE14 (io) "PE14/FSMC_D11/TIM1_CH4/EVENTOUT", 46 PE15 (io) "PE15/FSMC_D12/TIM1_BKIN/EVENTOUT", 47 PB10 (io) "PB10/SPI2_SCK/I2S2_CK/I2C2_SCL/USART3_TX/OTG_HS_ULPI_D3/ETH_MII_RX_ER/TIM2_CH3/EVENTOUT", 48 PB11 (io) "PB11/I2C2_SDA/USART3_RX/OTG_HS_ULPI_D4/ETH_RMII_TX_EN/ETH_MII_TX_EN/TIM2_CH4/EVENTOUT", 49 VCAP_1 (power), 50 VDD (power), 51 PB12 (io) "PB12/SPI2_NSS/I2S2_WS/I2C2_SMBA/USART3_CK/TIM1_BKIN/CAN2_RX/OTG_HS_ULPI_D5/ETH_RMII_TXD0/ETH_MII_TXD0/OTG_HS_ID/EVENTOUT", 52 PB13 (io) "PB13/SPI2_SCK/I2S2_CK/USART3_CTS/TIM1_CH1N/CAN2_TX/OTG_HS_ULPI_D6/ETH_RMII_TXD1/ETH_MII_TXD1/EVENTOUT/OTG_HS_VBUS", 53 PB14 (io) "PB14/SPI2_MISO/TIM1_CH2N/TIM12_CH1/OTG_HS_DM/USART3_RTS/TIM8_CH2N/I2S2ext_SD/EVENTOUT", 54 PB15 (io) "PB15/SPI2_MOSI/I2S2_SD/TIM1_CH3N/TIM8_CH3N/TIM12_CH2/OTG_HS_DP/EVENTOUT/RTC_REFIN", 55 PD8 (io) "PD8/FSMC_D13/USART3_TX/EVENTOUT", 56 PD9 (io) "PD9/FSMC_D14/USART3_RX/EVENTOUT", 57 PD10 (io) "PD10/FSMC_D15/USART3_CK/EVENTOUT", 58 PD11 (io) "PD11/FSMC_CLE/FSMC_A16/USART3_CTS/EVENTOUT", 59 PD12 (io) "PD12/FSMC_ALE/FSMC_A17/TIM4_CH1/USART3_RTS/EVENTOUT", 60 PD13 (io) "PD13/FSMC_A18/TIM4_CH2/EVENTOUT", 61 PD14 (io) "PD14/FSMC_D0/TIM4_CH3/EVENTOUT", 62 PD15 (io) "PD15/FSMC_D1/TIM4_CH4/EVENTOUT", 63 PC6 (io) "PC6/I2S2_MCK/TIM8_CH1/SDIO_D6/USART6_TX/DCMI_D0/TIM3_CH1/EVENTOUT", 64 PC7 (io) "PC7/I2S3_MCK/TIM8_CH2/SDIO_D7/USART6_RX/DCMI_D1/TIM3_CH2/EVENTOUT", 65 PC8 (io) "PC8/TIM8_CH3/SDIO_D0/TIM3_CH3/USART6_CK/DCMI_D2/EVENTOUT", 66 PC9 (io) "PC9/I2S_CKIN/MCO2/TIM8_CH4/SDIO_D1/I2C3_SDA/DCMI_D3/TIM3_CH4/EVENTOUT", 67 PA8 (io) "PA8/MCO1/USART1_CK/TIM1_CH1/I2C3_SCL/OTG_FS_SOF/EVENTOUT", 68 PA9 (io) "PA9/USART1_TX/TIM1_CH2/I2C3_SMBA/DCMI_D0/EVENTOUT/OTG_FS_VBUS", 69 PA10 (io) "PA10/USART1_RX/TIM1_CH3/OTG_FS_ID/DCMI_D1/EVENTOUT", 70 PA11 (io) "PA11/USART1_CTS/CAN1_RX/TIM1_CH4/OTG_FS_DM/EVENTOUT", 71 PA12 (io) "PA12/USART1_RTS/CAN1_TX/TIM1_ETR/OTG_FS_DP/EVENTOUT", 72 PA13 (io) "PA13(JTMS-SWDIO)/JTMS-SWDIO/EVENTOUT", 73 VCAP_2 (power), 74 VSS (power), 75 VDD (power), 76 PA14 (io) "PA14(JTCK-SWCLK)/JTCK-SWCLK/EVENTOUT", 77 PA15 (io) "PA15(JTDI)/JTDI/SPI3_NSS/I2S3_WS/TIM2_CH1_ETR/SPI1_NSS/EVENTOUT", 78 PC10 (io) "PC10/SPI3_SCK/I2S3_CK/UART4_TX/SDIO_D2/DCMI_D8/USART3_TX/EVENTOUT", 79 PC11 (io) "PC11/UART4_RX/SPI3_MISO/SDIO_D3/DCMI_D4/USART3_RX/I2S3ext_SD/EVENTOUT", 80 PC12 (io) "PC12/UART5_TX/SDIO_CK/DCMI_D9/SPI3_MOSI/I2S3_SD/USART3_CK/EVENTOUT", 81 PD0 (io) "PD0/FSMC_D2/CAN1_RX/EVENTOUT", 82 PD1 (io) "PD1/FSMC_D3/CAN1_TX/EVENTOUT", 83 PD2 (io) "PD2/TIM3_ETR/UART5_RX/SDIO_CMD/DCMI_D11/EVENTOUT", 84 PD3 (io) "PD3/FSMC_CLK/USART2_CTS/EVENTOUT", 85 PD4 (io) "PD4/FSMC_NOE/USART2_RTS/EVENTOUT", 86 PD5 (io) "PD5/FSMC_NWE/USART2_TX/EVENTOUT", 87 PD6 (io) "PD6/FSMC_NWAIT/USART2_RX/EVENTOUT", 88 PD7 (io) "PD7/USART2_CK/FSMC_NE1/FSMC_NCE2/EVENTOUT", 89 PB3(JTDO/TRACESWO) (io) "PB3(JTDO/TRACESWO)/JTDO/TRACESWO/SPI3_SCK/I2S3_CK/TIM2_CH2/SPI1_SCK/EVENTOUT", 90 PB4(NJTRST) (io) "PB4(NJTRST)/NJTRST/SPI3_MISO/TIM3_CH1/SPI1_MISO/I2S3ext_SD/EVENTOUT", 91 PB5 (io) "PB5/I2C1_SMBA/CAN2_RX/OTG_HS_ULPI_D7/ETH_PPS_OUT/TIM3_CH2/SPI1_MOSI/SPI3_MOSI/DCMI_D10/I2S3_SD/EVENTOUT", 92 PB6 (io) "PB6/I2C1_SCL/TIM4_CH1/CAN2_TX/DCMI_D5/USART1_TX/EVENTOUT", 93 PB7 (io) "PB7/I2C1_SDA/FSMC_NL/DCMI_VSYNC/USART1_RX/TIM4_CH2/EVENTOUT", 94 BOOT0 (in) "BOOT0/VPP", 95 PB8 (io) "PB8/TIM4_CH3/SDIO_D4/TIM10_CH1/DCMI_D6/ETH_MII_TXD3/I2C1_SCL/CAN1_RX/EVENTOUT", 96 PB9 (io) "PB9/SPI2_NSS/I2S2_WS/TIM4_CH4/TIM11_CH1/SDIO_D5/DCMI_D7/I2C1_SDA/CAN1_TX/EVENTOUT", 97 PE0 (io) "PE0/TIM4_ETR/FSMC_NBL0/DCMI_D2/EVENTOUT", 98 PE1 (io) "PE1/FSMC_NBL1/DCMI_D3/EVENTOUT", 99 VSS (power), 100 VDD (power)
text: MCU

## TIP122
designator VT?
Type: Транзистор; Published: 07.05.2013; Publisher: Andrew Danich
footprint TO-220
pins: 1 Б "База", 2 К "Коллектор", 3 Э "Эмиттер"

## TIP142
designator VT?
Type: Транзистор; Published: 07.05.2013; Publisher: Andrew Danich
footprint TO-247
pins: 1 Б "База", 2 К "Коллектор", 3 Э "Эмиттер"

## TLP627
designator DA?
Published: 09.01.2017; Publisher: Andrew Danich; Type: Микросхема
footprint DIP-4 (DIP; 4 Leads; Row Spacing 7.62 mm; Pitch 2.54 mm)
pins: 1 CА "Анод излучающего диода", 2 CК "Катод излучающего диода", 3 Э "Эмиттер транзистора (n-p-n)", 4 К "Коллектор транзистора"

## TLP781
designator DA?
Published: 09.01.2017; Publisher: Andrew Danich; Type: Микросхема
footprint DIP-4 (DIP; 4 Leads; Row Spacing 7.62 mm; Pitch 2.54 mm)
pins: 1 CА "Анод излучающего диода", 2 CК "Катод излучающего диода", 3 Э "Эмиттер транзистора (n-p-n)", 4 К "Коллектор транзистора"

## USB-B-S-X-X-TH
designator J?
USB-B (USB TYPE-B) USB 2.0 Receptacle Connector 4 Position Through Hole, Right Angle; MP: USB-B-S-X-X-TH; Package: None; Price: None; Availability: Unavailable; Value: *
footprint SAMTEC_USB-B-S-X-X-TH
pins: 1 VCC (power), 2 D- (io), 3 D+ (io), 4 GND (power), S1 SHIELD, S2 SHIELD

## VS-30BQ040
designator VD?
Type: Диод; Published: 18.05.2010; Publisher: Andrew Danich
footprint DO214AB SMC
pins: 1 А "Анод", 2 К "Катод"

## W25Q128
designator DD?
Value: *
footprint SOIC8 (SO-8)
pins: 1 CS (in), 2 DO (out), 3 WP, 4 GND, 5 DI (in), 6 CLK, 7 HOLD, 8 VCC (power)

## КТ973А
designator VT?
Type: Транзистор; Published: 07.05.2013; Publisher: Andrew Danich
footprint TO-126 (КТ-27)
pins: 1 Б "База", 2 К "Коллектор", 3 Э "Эмиттер"